# Altium footprint library микросхемы аналоговые.PcbLib: 28 footprints (part 1 of 2)
Each footprint in its own frame and in the unit in brackets; x right, y up, seen from the top. Pads: shape width x height; smd on the part's side, far side on the other; paste and mask are expansions set on the pad; w line width, h text height; cw(c..) or ccw(c..) is an arc to the next point about the centre after c.
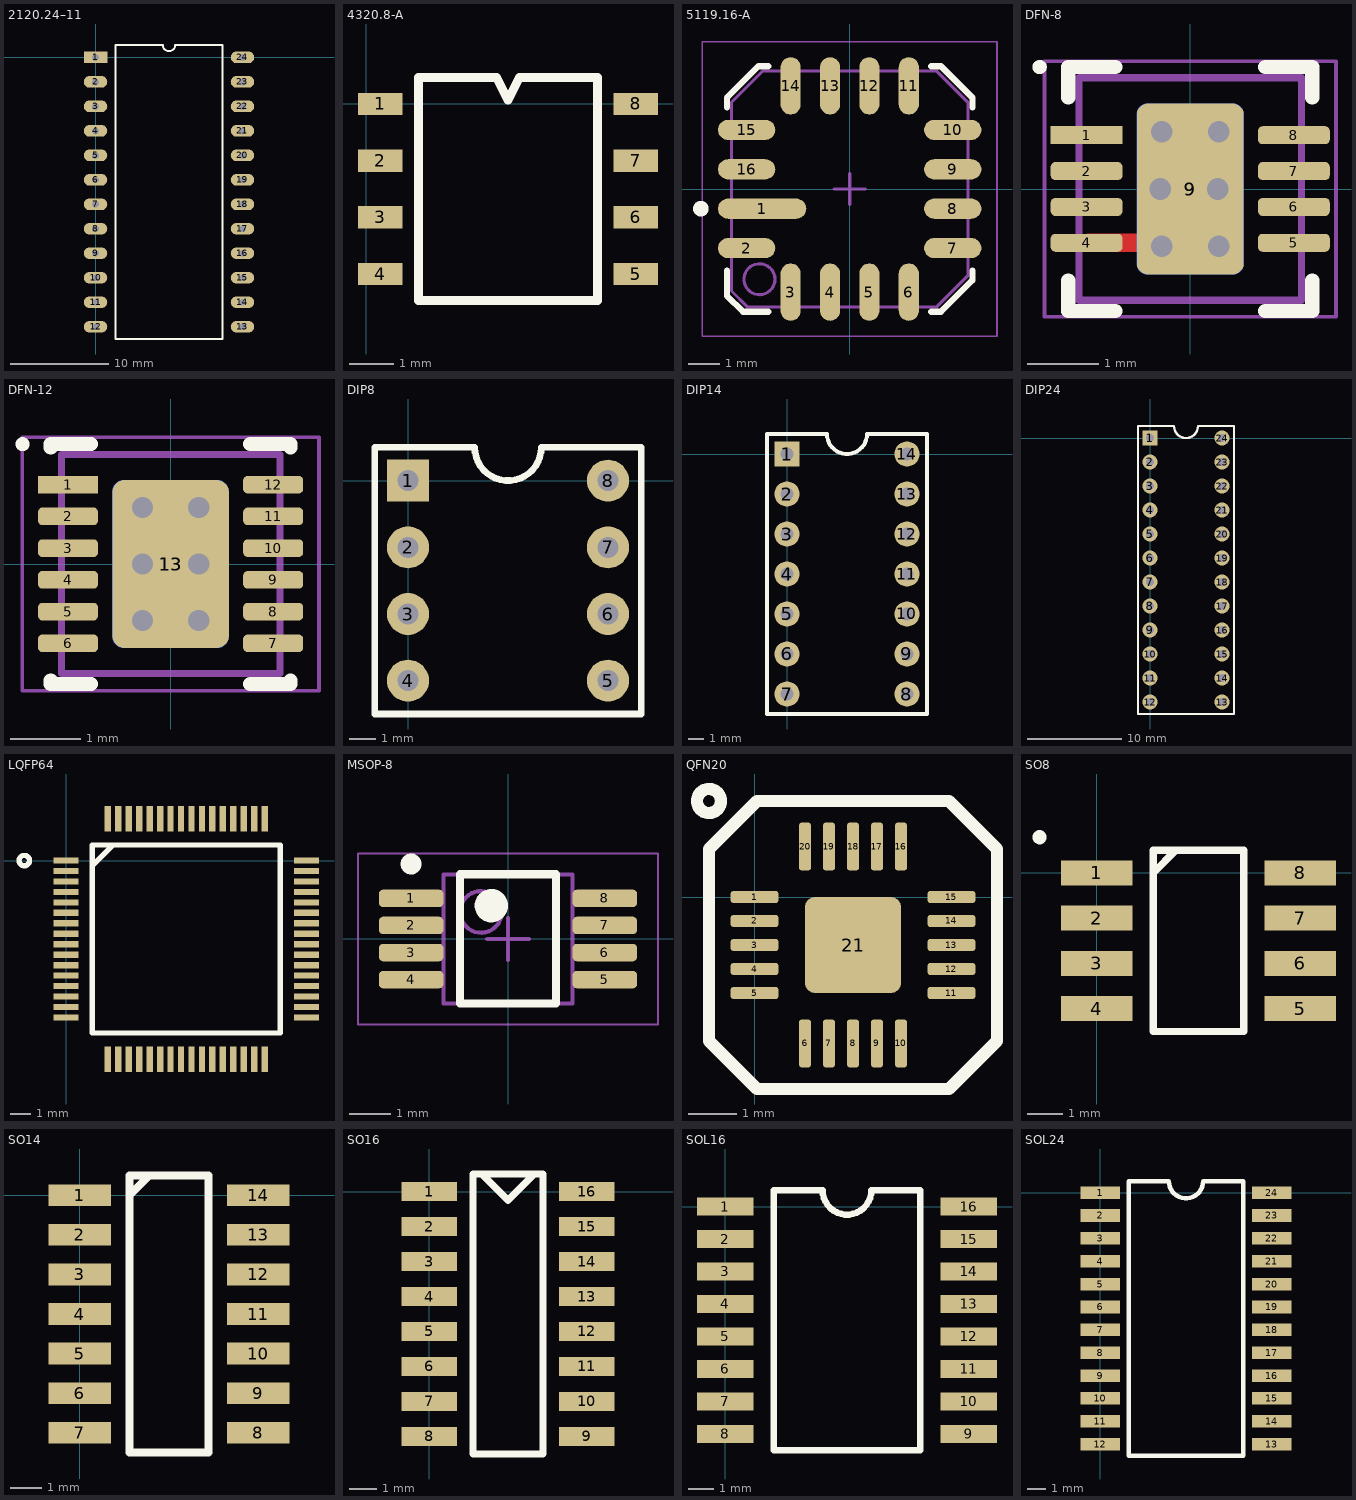
[diagram p0: the footprints below, top view; thin cyan lines are the x and y axes]

## 2120.24–11 [mm]
pads (24):
  rect 2.4x1.2 hole 0.7: 1(0,0)
  oval 2.4x1.2 hole 0.7: 2(0,-2.5) 3(0,-5) 4(0,-7.5) 5(0,-10) 6(0,-12.5) 7(0,-15) 8(0,-17.5) 9(0,-20) 10(0,-22.5) 11(0,-25) 12(0,-27.5) 13(15,-27.5) 14(15,-25) 15(15,-22.5) 16(15,-20) 17(15,-17.5) 18(15,-15) 19(15,-12.5) 20(15,-10) 21(15,-7.5) 22(15,-5) 23(15,-2.5) 24(15,0)
Top Overlay:
  lines w0.2: 2.035,-28.75 2.035,1.25 6.875,1.25 ccw(c7.5,1.25) 8.125,1.25 12.965,1.25 12.965,-28.75 2.035,-28.75

## 4320.8-А [mm]
pads (8):
  rect 1x0.5 smd: 1(0.315,0) 2(0.315,-1.27) 3(0.315,-2.54) 4(0.315,-3.81) 5(6.035,-3.81) 6(6.035,-2.54) 7(6.035,-1.27) 8(6.035,0)
Top Overlay:
  lines w0.2: 1.175,-4.405 1.175,0.595 2.921,0.595 3.175,0.087 3.429,0.595 5.175,0.595 5.175,-4.405 1.175,-4.405

## 5119.16-А [mm] "16 выв. корпус (QFN-16)"
height 2.42
pads (16):
  oval 2.85x0.65 smd: 1(-2.825,-0.635)
  oval 1.85x0.65 smd: 2(-3.325,-1.905) 7(3.325,-1.905) 8(3.325,-0.635) 9(3.325,0.635) 10(3.325,1.905) 15(-3.325,1.905) 16(-3.325,0.635)
  oval 0.65x1.85 smd: 3(-1.905,-3.325) 4(-0.635,-3.325) 5(0.635,-3.325) 6(1.905,-3.325) 11(1.905,3.325) 12(0.635,3.325) 13(-0.635,3.325) 14(-1.905,3.325)
Top Overlay:
  circle w0.25: c-4.8,-0.635 r0.125
  lines w0.2: -3.96,-2.63 -3.96,-3.44 -3.44,-3.96 -2.63,-3.96 ; -3.96,2.63 -3.96,2.944 -2.944,3.96 -2.63,3.96 ; 2.63,-3.96 2.94,-3.96 3.956,-2.944 ; 2.63,3.96 2.944,3.96 3.96,2.944 3.96,2.63 ; 3.96,-2.94 3.96,-2.63
Mechanical 14:
  circle w0.1: c-2.91,-2.91 r0.5
  lines w0.1: 3.806,-2.794 2.79,-3.81 -3.29,-3.81 -3.81,-3.29 -3.81,2.794 -2.794,3.81 2.794,3.81 3.81,2.794 3.81,-2.79
Mechanical 15:
  lines w0.05: -4.75,-4.75 4.75,-4.75 4.75,4.75 -4.75,4.75 -4.75,-4.75
  lines w0.1: -0.5,0 0.5,0 ; 0,-0.5 0,0.5
3D body "User Library-5119.16-A_IКб ИМdМХИКВ_5119.16-A.sldprt": height 1.02, standoff 0, extent -2.218,-3.81 -1.583,-2.54
3D body "User Library-5119.16-A_IКб ДЙКббЦВ_5119.16-A.sldprt": height 1.02, standoff 0, extent -3.81,-0.952 -1.51,-0.317
3D body "User Library-5119.16-A_EМdЛвд_5119.16-A.sldprt": height 2.42, standoff 0, extent -3.81,-3.81 3.81,3.81
3D body "User Library-5119.16-A_IКб ИМdМХИКВ_5119.16-A.sldprt": height 1.02, standoff 0, extent -3.81,0.321 -2.54,0.956
3D body "User Library-5119.16-A_IКб ИМdМХИКВ_5119.16-A.sldprt": height 1.02, standoff 0, extent -3.81,-2.22 -2.54,-1.585
3D body "User Library-5119.16-A_IКб ИМdМХИКВ_5119.16-A.sldprt": height 1.02, standoff 0, extent 1.585,2.54 2.22,3.81
3D body "User Library-5119.16-A_IКб ИМdМХИКВ_5119.16-A.sldprt": height 1.02, standoff 0, extent -0.955,2.54 -0.32,3.81
3D body "User Library-5119.16-A_IКб ИМdМХИКВ_5119.16-A.sldprt": height 1.02, standoff 0, extent 2.54,-2.22 3.81,-1.585
3D body "User Library-5119.16-A_IКб ИМdМХИКВ_5119.16-A.sldprt": height 1.02, standoff 0, extent 0.317,2.54 0.952,3.81
3D body "User Library-5119.16-A_IКб ИМdМХИКВ_5119.16-A.sldprt": height 1.02, standoff 0, extent -2.224,2.54 -1.589,3.81
3D body "User Library-5119.16-A_IКб ИМdМХИКВ_5119.16-A.sldprt": height 1.02, standoff 0, extent 2.54,-0.952 3.81,-0.317
3D body "User Library-5119.16-A_IКб ИМdМХИКВ_5119.16-A.sldprt": height 1.02, standoff 0, extent 2.54,0.318 3.81,0.953
3D body "User Library-5119.16-A_IКб ИМdМХИКВ_5119.16-A.sldprt": height 1.02, standoff 0, extent 2.54,1.591 3.81,2.226
3D body "User Library-5119.16-A_IКб ИМdМХИКВ_5119.16-A.sldprt": height 1.02, standoff 0, extent -3.81,1.595 -2.54,2.23
3D body "User Library-5119.16-A_IКб ИМdМХИКВ_5119.16-A.sldprt": height 1.02, standoff 0, extent -0.957,-3.81 -0.322,-2.54
3D body "User Library-5119.16-A_IКб ИМdМХИКВ_5119.16-A.sldprt": height 1.02, standoff 0, extent 0.316,-3.81 0.951,-2.54
3D body "User Library-5119.16-A_IКб ИМdМХИКВ_5119.16-A.sldprt": height 1.02, standoff 0, extent 1.587,-3.81 2.222,-2.54

## DFN-8 [mm] "DD8 Package  8-Lead Plastic DFN (3mm ? 3mm)  (Reference LTC DWG # 05-08-1698 Rev C)"
height 0.8
pads (10):
  rect 1x0.25 smd mask+0.025: 1(-1.445,0.75)
  rrect50% 1x0.25 smd mask+0.025: 2(-1.445,0.25) 3(-1.445,-0.25) 4(-1.445,-0.75) 5(1.445,-0.75) 6(1.445,-0.25) 7(1.445,0.25) 8(1.445,0.75)
  rrect20% 1.49x2.38 smd mask+0.02: 9(0,0)
  rrect20% 1.49x2.38 smd far side mask+0.025: 9(0,0)
via 0.4,-0.8 diameter 0.6 hole 0.3
via 0.381,0 diameter 0.6 hole 0.3
via -0.4,-0.8 diameter 0.6 hole 0.3
via -0.419,0 diameter 0.6 hole 0.3
via 0.4,0.8 diameter 0.6 hole 0.3
via -0.4,0.8 diameter 0.6 hole 0.3
Top Layer:
  region: -1.445,-0.625 -0.381,-0.625 -0.381,-0.875 -1.445,-0.875
Top Overlay:
  circle w0.1: c-2.1,1.7 r0.05
  lines w0.2: -1.7,-1.275 -1.7,-1.7 -1.045,-1.7 ; -1.7,1.275 -1.7,1.7 -1.045,1.7 ; 1.045,-1.7 1.7,-1.7 1.7,-1.275 ; 1.045,1.7 1.7,1.7 1.7,1.275
Mechanical 14:
  circle w0.1: c0,0 r0.5
  lines w0.1: -1.55,-1.55 -1.55,1.55 1.55,1.55 1.55,-1.55 -1.55,-1.55
Mechanical 15:
  lines w0.05: -2.032,-1.778 -2.032,1.778 2.032,1.778 2.032,-1.778 -2.032,-1.778
  lines w0.1: -0.5,0 0.5,0 ; 0,-0.5 0,0.5
3D body: height 0.8, standoff 0, extent -1.55,-1.55 1.55,1.55

## DFN-12 [mm] "SON, 12-Leads, Body 3,00x3,00mm, Pitch 0,45mm, Thermal Pad 2,38x1,65mm, IPC Medium Density"
height 0.8
pads (14):
  rect 0.85x0.25 smd: 1(-1.455,1.125)
  rrect50% 0.85x0.25 smd: 2(-1.455,0.675) 3(-1.455,0.225) 4(-1.455,-0.225) 5(-1.455,-0.675) 6(-1.455,-1.125) 7(1.455,-1.125) 8(1.455,-0.675) 9(1.455,-0.225) 10(1.455,0.225) 11(1.455,0.675) 12(1.455,1.125)
  rrect20% 1.65x2.38 smd paste-0.825: 13(0,0)
  rrect20% 1.65x2.38 smd far side paste-0.825: 13(0,0)
via 0.4,0.8 diameter 0.6 hole 0.3
via -0.4,0.8 diameter 0.6 hole 0.3
via 0.4,0 diameter 0.6 hole 0.3
via -0.4,0 diameter 0.6 hole 0.3
via 0.4,-0.8 diameter 0.6 hole 0.3
via -0.4,-0.8 diameter 0.6 hole 0.3
Top Overlay:
  circle w0.1: c-2.1,1.7 r0.05
  lines w0.2: -1.7,-1.65 -1.7,-1.7 -1.13,-1.7 ; -1.7,1.65 -1.7,1.7 -1.13,1.7 ; 1.13,-1.7 1.7,-1.7 1.7,-1.65 ; 1.13,1.7 1.7,1.7 1.7,1.65
Top Paste:
  rectangle: -1.7,0.775 -0.7,1.925
  rectangle: -1.7,-0.575 -0.7,0.575
  rectangle: -1.7,-1.925 -0.7,-0.775
  rectangle: -0.5,0.775 0.5,1.925
  rectangle: -0.5,-0.575 0.5,0.575
  rectangle: -0.5,-1.925 0.5,-0.775
  rectangle: 0.7,0.775 1.7,1.925
  rectangle: 0.7,-0.575 1.7,0.575
  rectangle: 0.7,-1.925 1.7,-0.775
Mechanical 14:
  circle w0.1: c0,0 r0.5
  lines w0.1: -1.55,-1.55 -1.55,1.55 1.55,1.55 1.55,-1.55 -1.55,-1.55
Mechanical 15:
  lines w0.05: -2.105,-1.8 -2.105,1.8 2.105,1.8 2.105,-1.8 -2.105,-1.8
  lines w0.1: -0.5,0 0.5,0 ; 0,-0.5 0,0.5
3D body: height 0.8, standoff 0, extent -1.55,-1.55 1.55,1.55

## DIP8 [mm]
pads (8):
  rect 1.6x1.6 hole 0.8: 1(0,0)
  round 1.6 hole 0.8: 2(0,-2.54) 3(0,-5.08) 4(0,-7.62) 5(7.62,-7.62) 6(7.62,-5.08) 7(7.62,-2.54) 8(7.62,0)
Top Overlay:
  lines w0.254: -1.27,-8.89 8.89,-8.89 8.89,1.27 5.08,1.27 cw(c3.81,1.27) 2.54,1.27 -1.27,1.27 -1.27,-8.89

## DIP14 [mm]
pads (14):
  rect 1.6x1.6 hole 0.8: 1(0,0)
  round 1.6 hole 0.8: 2(0,-2.54) 3(0,-5.08) 4(0,-7.62) 5(0,-10.16) 6(0,-12.7) 7(0,-15.24) 8(7.62,-15.24) 9(7.62,-12.7) 10(7.62,-10.16) 11(7.62,-7.62) 12(7.62,-5.08) 13(7.62,-2.54) 14(7.62,0)
Top Overlay:
  lines w0.254: -1.27,-16.51 -1.27,1.27 2.54,1.27 ccw(c3.81,1.27) 5.08,1.27 8.89,1.27 8.89,-16.51 -1.27,-16.51

## DIP24 [mm]
pads (24):
  rect 1.6x1.6 hole 0.8: 1(0,0)
  round 1.6 hole 0.8: 2(0,-2.54) 3(0,-5.08) 4(0,-7.62) 5(0,-10.16) 6(0,-12.7) 7(0,-15.24) 8(0,-17.78) 9(0,-20.32) 10(0,-22.86) 11(0,-25.4) 12(0,-27.94) 13(7.62,-27.94) 14(7.62,-25.4) 15(7.62,-22.86) 16(7.62,-20.32) 17(7.62,-17.78) 18(7.62,-15.24) 19(7.62,-12.7) 20(7.62,-10.16) 21(7.62,-7.62) 22(7.62,-5.08) 23(7.62,-2.54) 24(7.62,0)
Top Overlay:
  lines w0.254: -1.27,-29.21 8.89,-29.21 8.89,1.27 5.08,1.27 cw(c3.81,1.27) 2.54,1.27 -1.27,1.27 -1.27,-29.21

## LQFP64 [mm]
pads (64):
  rect 1.2x0.3 smd: 1(0,0) 2(0,-0.5) 3(0,-1) 4(0,-1.5) 5(0,-2) 6(0,-2.5) 7(0,-3) 8(0,-3.5) 9(0,-4) 10(0,-4.5) 11(0,-5) 12(0,-5.5) 13(0,-6) 14(0,-6.5) 15(0,-7) 16(0,-7.5) 33(11.5,-7.5) 34(11.5,-7) 35(11.5,-6.5) 36(11.5,-6) 37(11.5,-5.5) 38(11.5,-5) 39(11.5,-4.5) 40(11.5,-4) 41(11.5,-3.5) 42(11.5,-3) 43(11.5,-2.5) 44(11.5,-2) 45(11.5,-1.5) 46(11.5,-1) 47(11.5,-0.5) 48(11.5,0)
  rect 0.3x1.2 smd: 17(2,-9.5) 18(2.5,-9.5) 19(3,-9.5) 20(3.5,-9.5) 21(4,-9.5) 22(4.5,-9.5) 23(5,-9.5) 24(5.5,-9.5) 25(6,-9.5) 26(6.5,-9.5) 27(7,-9.5) 28(7.5,-9.5) 29(8,-9.5) 30(8.5,-9.5) 31(9,-9.5) 32(9.5,-9.5) 49(9.5,2) 50(9,2) 51(8.5,2) 52(8,2) 53(7.5,2) 54(7,2) 55(6.5,2) 56(6,2) 57(5.5,2) 58(5,2) 59(4.5,2) 60(4,2) 61(3.5,2) 62(3,2) 63(2.5,2) 64(2,2)
Top Overlay:
  circle w0.25: c-2,0 r0.25
  lines w0.254: 1.25,-0.25 2.25,0.75 ; 1.25,-8.25 1.25,0.75 10.25,0.75 10.25,-8.25 1.25,-8.25

## MSOP-8 [mm] "MSOP-8 3x3 case body IPC"
height 1.1
pads (8):
  rrect50% 1.55x0.42 smd mask+0.025: 1(-2.325,0.975) 2(-2.325,0.325) 3(-2.325,-0.325) 4(-2.325,-0.975) 5(2.325,-0.975) 6(2.325,-0.325) 7(2.325,0.325) 8(2.325,0.975)
Top Overlay:
  circle w0.4: c-0.4,0.8 r0.2
  circle w0.25: c-2.325,1.8 r0.125
  lines w0.2: -1.15,-1.55 1.15,-1.55 1.15,1.55 -1.15,1.55 -1.15,-1.55
Mechanical 14:
  circle w0.1: c-0.65,0.65 r0.5
  lines w0.1: -1.55,-1.55 1.55,-1.55 1.55,1.55 -1.55,1.55 -1.55,-1.55
Mechanical 15:
  lines w0.05: -3.6,-2.05 3.6,-2.05 3.6,2.05 -3.6,2.05 -3.6,-2.05
  lines w0.1: -0.5,0 0.5,0 ; 0,-0.5 0,0.5
3D body "User Library-MSOP-8 MSOP-8L.SLDPRT": height 1.01, standoff 0, extent -2.46,-1.525 2.46,1.525

## QFN20 [mm]
pads (21):
  rrect50% 1x0.25 smd: 1(0,0) 2(0,-0.5) 3(0,-1) 4(0,-1.5) 5(0,-2) 11(4.1,-2) 12(4.1,-1.5) 13(4.1,-1) 14(4.1,-0.5) 15(4.1,0)
  rrect50% 0.25x1 smd: 6(1.05,-3.05) 7(1.55,-3.05) 8(2.05,-3.05) 9(2.55,-3.05) 10(3.05,-3.05) 16(3.05,1.05) 17(2.55,1.05) 18(2.05,1.05) 19(1.55,1.05) 20(1.05,1.05)
  rrect20% 2x2 smd: 21(2.05,-1)
Top Overlay:
  circle w0.254: c-0.95,2 r0.25
  lines w0.254: -0.95,-3 -0.95,1 0.05,2 4.05,2 5.05,1 5.05,-3 4.05,-4 0.05,-4 -0.95,-3

## SO8 [mm]
pads (8):
  rect 2x0.7 smd mask+0.025: 1(0,0) 2(0,-1.27) 3(0,-2.54) 4(0,-3.81) 5(5.715,-3.81) 6(5.715,-2.54) 7(5.715,-1.27) 8(5.715,0)
Top Overlay:
  circle w0.2: c-1.6,1 r0.1
  lines w0.2: 1.587,0 2.222,0.635 ; 1.587,-4.445 1.587,0.635 4.127,0.635 4.127,-4.445 1.587,-4.445
3D body "CircuitWorks-SO-8 (PIC12FXXX).SLDPRT": height 1.6, standoff 0, extent -0.12,-4.36 5.87,0.54

## SO14 [mm]
pads (14):
  rect 2x0.7 smd: 1(0,0) 2(0,-1.27) 3(0,-2.54) 4(0,-3.81) 5(0,-5.08) 6(0,-6.35) 7(0,-7.62) 8(5.715,-7.62) 9(5.715,-6.35) 10(5.715,-5.08) 11(5.715,-3.81) 12(5.715,-2.54) 13(5.715,-1.27) 14(5.715,0)
Top Overlay:
  lines w0.254: 1.587,0 2.222,0.635 ; 1.587,-8.255 1.587,0.635 4.127,0.635 4.127,-8.255 1.587,-8.255

## SO16 [mm]
pads (16):
  rect 2x0.7 smd: 1(0,0) 2(0,-1.27) 3(0,-2.54) 4(0,-3.81) 5(0,-5.08) 6(0,-6.35) 7(0,-7.62) 8(0,-8.89) 9(5.715,-8.89) 10(5.715,-7.62) 11(5.715,-6.35) 12(5.715,-5.08) 13(5.715,-3.81) 14(5.715,-2.54) 15(5.715,-1.27) 16(5.715,0)
Top Overlay:
  lines w0.254: 1.905,0.635 2.857,-0.318 3.81,0.635 ; 1.587,-9.525 4.127,-9.525 4.127,0.635 1.587,0.635 1.587,-9.525

## SOL16 [mm]
pads (16):
  rect 2.2x0.7 smd: 1(0,0) 2(0,-1.27) 3(0,-2.54) 4(0,-3.81) 5(0,-5.08) 6(0,-6.35) 7(0,-7.62) 8(0,-8.89) 9(9.525,-8.89) 10(9.525,-7.62) 11(9.525,-6.35) 12(9.525,-5.08) 13(9.525,-3.81) 14(9.525,-2.54) 15(9.525,-1.27) 16(9.525,0)
Top Overlay:
  lines w0.254: 1.905,-9.525 7.62,-9.525 7.62,0.635 5.715,0.635 cw(c4.763,0.635) 3.81,0.635 1.905,0.635 1.905,-9.525

## SOL24 [mm]
pads (24):
  rect 2.2x0.7 smd: 1(0,0) 2(0,-1.27) 3(0,-2.54) 4(0,-3.81) 5(0,-5.08) 6(0,-6.35) 7(0,-7.62) 8(0,-8.89) 9(0,-10.16) 10(0,-11.43) 11(0,-12.7) 12(0,-13.97) 13(9.525,-13.97) 14(9.525,-12.7) 15(9.525,-11.43) 16(9.525,-10.16) 17(9.525,-8.89) 18(9.525,-7.62) 19(9.525,-6.35) 20(9.525,-5.08) 21(9.525,-3.81) 22(9.525,-2.54) 23(9.525,-1.27) 24(9.525,0)
Top Overlay:
  lines w0.254: 3.746,0.635 1.587,0.635 1.587,-14.605 7.938,-14.605 7.938,0.635 5.715,0.635 cw(c4.763,0.635) 3.81,0.635
3D body "User Library-SOIC-24 wide.SLDPRT": height 1.7, standoff 0, extent -0.559,-14.478 10.084,0.508